# Altium footprint library Actel Footprints.PcbLib: 111 footprints (part 4 of 10)
Each footprint in its own frame and in the unit in brackets; x right, y up, seen from the top. Pads: shape width x height; smd on the part's side, far side on the other; paste and mask are expansions set on the pad; w line width, h text height; cw(c..) or ccw(c..) is an arc to the next point about the centre after c.
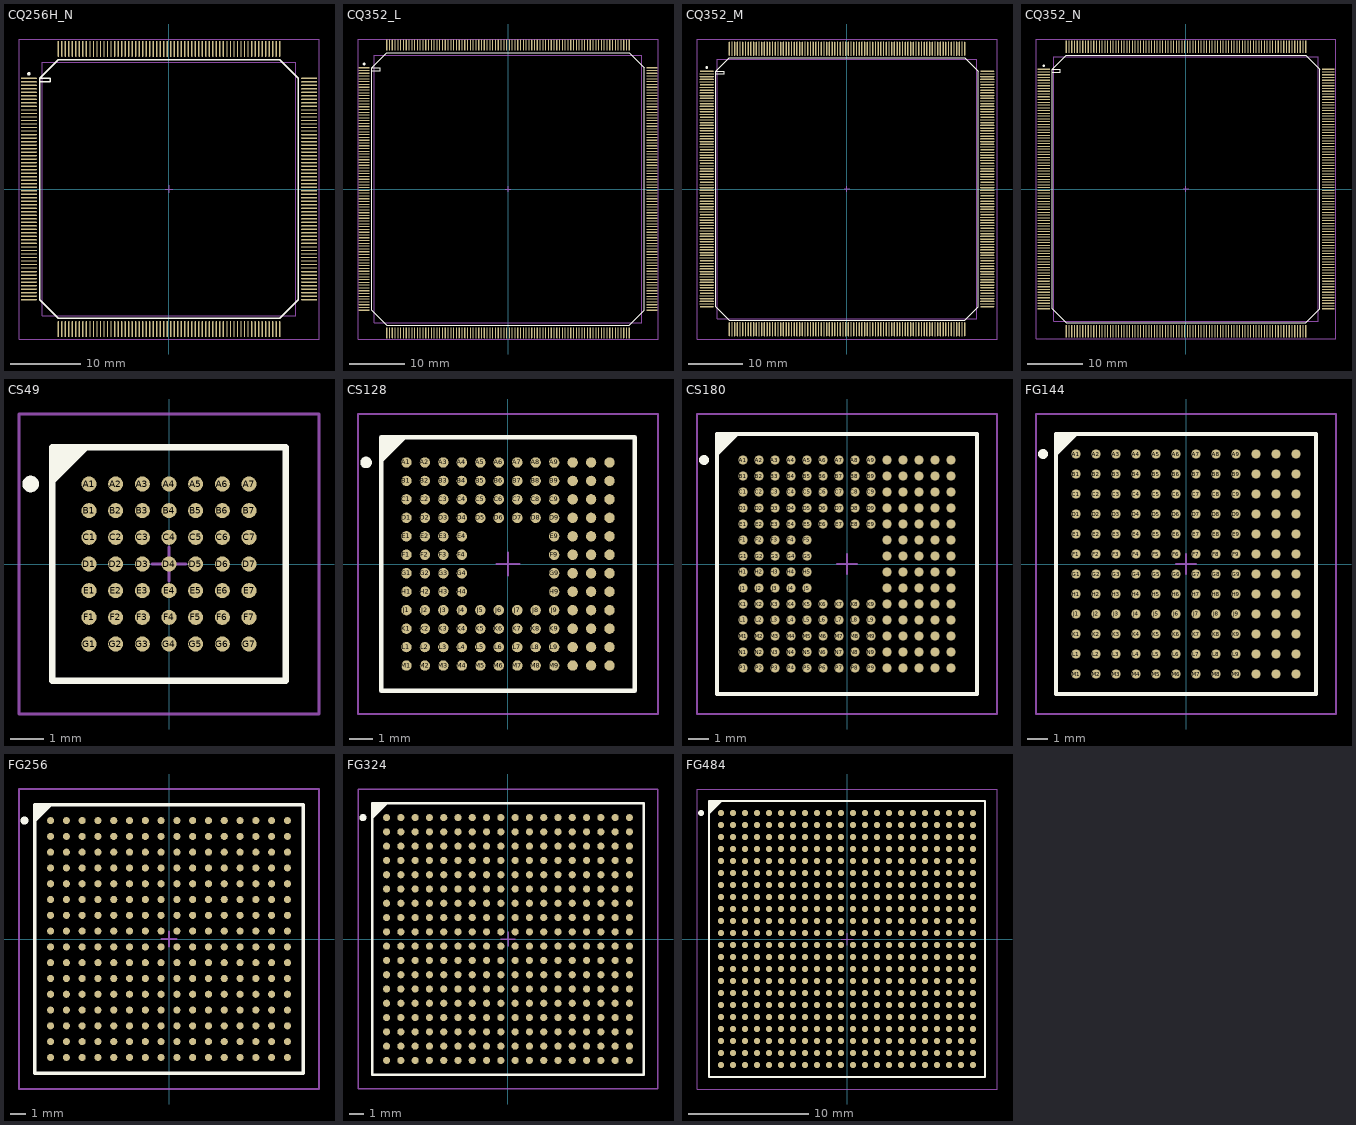
[diagram p3: the footprints below, top view; thin cyan lines are the x and y axes]

## CQ256H_N [mm] "256-Pin Ceramic Quad Flat Pack (CQFP) with Heat Sink, IPC Medium Density"
height 3.9
pads (256):
  oval 2.3x0.2 smd: 1(-19.95,15.75) 2(-19.95,15.25) 3(-19.95,14.75) 4(-19.95,14.25) 5(-19.95,13.75) 6(-19.95,13.25) 7(-19.95,12.75) 8(-19.95,12.25) 9(-19.95,11.75) 10(-19.95,11.25) 11(-19.95,10.75) 12(-19.95,10.25) 13(-19.95,9.75) 14(-19.95,9.25) 15(-19.95,8.75) 16(-19.95,8.25) 17(-19.95,7.75) 18(-19.95,7.25) 19(-19.95,6.75) 20(-19.95,6.25) 21(-19.95,5.75) 22(-19.95,5.25) 23(-19.95,4.75) 24(-19.95,4.25) 25(-19.95,3.75) 26(-19.95,3.25) 27(-19.95,2.75) 28(-19.95,2.25) 29(-19.95,1.75) 30(-19.95,1.25) 31(-19.95,0.75) 32(-19.95,0.25) 33(-19.95,-0.25) 34(-19.95,-0.75) 35(-19.95,-1.25) 36(-19.95,-1.75) 37(-19.95,-2.25) 38(-19.95,-2.75) 39(-19.95,-3.25) 40(-19.95,-3.75) 41(-19.95,-4.25) 42(-19.95,-4.75) 43(-19.95,-5.25) 44(-19.95,-5.75) 45(-19.95,-6.25) 46(-19.95,-6.75) 47(-19.95,-7.25) 48(-19.95,-7.75) 49(-19.95,-8.25) 50(-19.95,-8.75) 51(-19.95,-9.25) 52(-19.95,-9.75) 53(-19.95,-10.25) 54(-19.95,-10.75) 55(-19.95,-11.25) 56(-19.95,-11.75) 57(-19.95,-12.25) 58(-19.95,-12.75) 59(-19.95,-13.25) 60(-19.95,-13.75) 61(-19.95,-14.25) 62(-19.95,-14.75) 63(-19.95,-15.25) 64(-19.95,-15.75) 129(19.95,-15.75) 130(19.95,-15.25) 131(19.95,-14.75) 132(19.95,-14.25) 133(19.95,-13.75) 134(19.95,-13.25) 135(19.95,-12.75) 136(19.95,-12.25) 137(19.95,-11.75) 138(19.95,-11.25) 139(19.95,-10.75) 140(19.95,-10.25) 141(19.95,-9.75) 142(19.95,-9.25) 143(19.95,-8.75) 144(19.95,-8.25) 145(19.95,-7.75) 146(19.95,-7.25) 147(19.95,-6.75) 148(19.95,-6.25) 149(19.95,-5.75) 150(19.95,-5.25) 151(19.95,-4.75) 152(19.95,-4.25) 153(19.95,-3.75) 154(19.95,-3.25) 155(19.95,-2.75) 156(19.95,-2.25) 157(19.95,-1.75) 158(19.95,-1.25) 159(19.95,-0.75) 160(19.95,-0.25) 161(19.95,0.25) 162(19.95,0.75) 163(19.95,1.25) 164(19.95,1.75) 165(19.95,2.25) 166(19.95,2.75) 167(19.95,3.25) 168(19.95,3.75) 169(19.95,4.25) 170(19.95,4.75) 171(19.95,5.25) 172(19.95,5.75) 173(19.95,6.25) 174(19.95,6.75) 175(19.95,7.25) 176(19.95,7.75) 177(19.95,8.25) 178(19.95,8.75) 179(19.95,9.25) 180(19.95,9.75) 181(19.95,10.25) 182(19.95,10.75) 183(19.95,11.25) 184(19.95,11.75) 185(19.95,12.25) 186(19.95,12.75) 187(19.95,13.25) 188(19.95,13.75) 189(19.95,14.25) 190(19.95,14.75) 191(19.95,15.25) 192(19.95,15.75)
  oval 0.2x2.3 smd: 65(-15.75,-19.95) 66(-15.25,-19.95) 67(-14.75,-19.95) 68(-14.25,-19.95) 69(-13.75,-19.95) 70(-13.25,-19.95) 71(-12.75,-19.95) 72(-12.25,-19.95) 73(-11.75,-19.95) 74(-11.25,-19.95) 75(-10.75,-19.95) 76(-10.25,-19.95) 77(-9.75,-19.95) 78(-9.25,-19.95) 79(-8.75,-19.95) 80(-8.25,-19.95) 81(-7.75,-19.95) 82(-7.25,-19.95) 83(-6.75,-19.95) 84(-6.25,-19.95) 85(-5.75,-19.95) 86(-5.25,-19.95) 87(-4.75,-19.95) 88(-4.25,-19.95) 89(-3.75,-19.95) 90(-3.25,-19.95) 91(-2.75,-19.95) 92(-2.25,-19.95) 93(-1.75,-19.95) 94(-1.25,-19.95) 95(-0.75,-19.95) 96(-0.25,-19.95) 97(0.25,-19.95) 98(0.75,-19.95) 99(1.25,-19.95) 100(1.75,-19.95) 101(2.25,-19.95) 102(2.75,-19.95) 103(3.25,-19.95) 104(3.75,-19.95) 105(4.25,-19.95) 106(4.75,-19.95) 107(5.25,-19.95) 108(5.75,-19.95) 109(6.25,-19.95) 110(6.75,-19.95) 111(7.25,-19.95) 112(7.75,-19.95) 113(8.25,-19.95) 114(8.75,-19.95) 115(9.25,-19.95) 116(9.75,-19.95) 117(10.25,-19.95) 118(10.75,-19.95) 119(11.25,-19.95) 120(11.75,-19.95) 121(12.25,-19.95) 122(12.75,-19.95) 123(13.25,-19.95) 124(13.75,-19.95) 125(14.25,-19.95) 126(14.75,-19.95) 127(15.25,-19.95) 128(15.75,-19.95) 193(15.75,19.95) 194(15.25,19.95) 195(14.75,19.95) 196(14.25,19.95) 197(13.75,19.95) 198(13.25,19.95) 199(12.75,19.95) 200(12.25,19.95) 201(11.75,19.95) 202(11.25,19.95) 203(10.75,19.95) 204(10.25,19.95) 205(9.75,19.95) 206(9.25,19.95) 207(8.75,19.95) 208(8.25,19.95) 209(7.75,19.95) 210(7.25,19.95) 211(6.75,19.95) 212(6.25,19.95) 213(5.75,19.95) 214(5.25,19.95) 215(4.75,19.95) 216(4.25,19.95) 217(3.75,19.95) 218(3.25,19.95) 219(2.75,19.95) 220(2.25,19.95) 221(1.75,19.95) 222(1.25,19.95) 223(0.75,19.95) 224(0.25,19.95) 225(-0.25,19.95) 226(-0.75,19.95) 227(-1.25,19.95) 228(-1.75,19.95) 229(-2.25,19.95) 230(-2.75,19.95) 231(-3.25,19.95) 232(-3.75,19.95) 233(-4.25,19.95) 234(-4.75,19.95) 235(-5.25,19.95) 236(-5.75,19.95) 237(-6.25,19.95) 238(-6.75,19.95) 239(-7.25,19.95) 240(-7.75,19.95) 241(-8.25,19.95) 242(-8.75,19.95) 243(-9.25,19.95) 244(-9.75,19.95) 245(-10.25,19.95) 246(-10.75,19.95) 247(-11.25,19.95) 248(-11.75,19.95) 249(-12.25,19.95) 250(-12.75,19.95) 251(-13.25,19.95) 252(-13.75,19.95) 253(-14.25,19.95) 254(-14.75,19.95) 255(-15.25,19.95) 256(-15.75,19.95)
Top Overlay:
  circle w0.25: c-19.95,16.4 r0.125
  lines w0.2: -18.4,15.25 -16.9,15.25 -16.9,15.75 -18.4,15.75 ; -18.4,15.75 -15.75,18.4 15.75,18.4 18.4,15.75 18.4,-15.75 15.75,-18.4 -15.75,-18.4 -18.4,-15.75 -18.4,15.75
Mechanical 13:
  lines w0.1: -18.07,-18.07 18.07,-18.07 18.07,18.07 -18.07,18.07 -18.07,-18.07
Mechanical 15:
  lines w0.1: -0.5,0 0.5,0 ; 0,-0.5 0,0.5 ; -21.35,-21.35 21.35,-21.35 21.35,21.35 -21.35,21.35 -21.35,-21.35
3D body: height 3.9, standoff 0, extent -18.07,-18.07 18.07,18.07

## CQ352_L [mm] "352-Pin Ceramic Quad Flat Pack (CQFP), Cavity Up without Heat Sink, IPC High Density"
height 2.9
pads (352):
  oval 2x0.2 smd: 1(-25.8,21.75) 2(-25.8,21.25) 3(-25.8,20.75) 4(-25.8,20.25) 5(-25.8,19.75) 6(-25.8,19.25) 7(-25.8,18.75) 8(-25.8,18.25) 9(-25.8,17.75) 10(-25.8,17.25) 11(-25.8,16.75) 12(-25.8,16.25) 13(-25.8,15.75) 14(-25.8,15.25) 15(-25.8,14.75) 16(-25.8,14.25) 17(-25.8,13.75) 18(-25.8,13.25) 19(-25.8,12.75) 20(-25.8,12.25) 21(-25.8,11.75) 22(-25.8,11.25) 23(-25.8,10.75) 24(-25.8,10.25) 25(-25.8,9.75) 26(-25.8,9.25) 27(-25.8,8.75) 28(-25.8,8.25) 29(-25.8,7.75) 30(-25.8,7.25) 31(-25.8,6.75) 32(-25.8,6.25) 33(-25.8,5.75) 34(-25.8,5.25) 35(-25.8,4.75) 36(-25.8,4.25) 37(-25.8,3.75) 38(-25.8,3.25) 39(-25.8,2.75) 40(-25.8,2.25) 41(-25.8,1.75) 42(-25.8,1.25) 43(-25.8,0.75) 44(-25.8,0.25) 45(-25.8,-0.25) 46(-25.8,-0.75) 47(-25.8,-1.25) 48(-25.8,-1.75) 49(-25.8,-2.25) 50(-25.8,-2.75) 51(-25.8,-3.25) 52(-25.8,-3.75) 53(-25.8,-4.25) 54(-25.8,-4.75) 55(-25.8,-5.25) 56(-25.8,-5.75) 57(-25.8,-6.25) 58(-25.8,-6.75) 59(-25.8,-7.25) 60(-25.8,-7.75) 61(-25.8,-8.25) 62(-25.8,-8.75) 63(-25.8,-9.25) 64(-25.8,-9.75) 65(-25.8,-10.25) 66(-25.8,-10.75) 67(-25.8,-11.25) 68(-25.8,-11.75) 69(-25.8,-12.25) 70(-25.8,-12.75) 71(-25.8,-13.25) 72(-25.8,-13.75) 73(-25.8,-14.25) 74(-25.8,-14.75) 75(-25.8,-15.25) 76(-25.8,-15.75) 77(-25.8,-16.25) 78(-25.8,-16.75) 79(-25.8,-17.25) 80(-25.8,-17.75) 81(-25.8,-18.25) 82(-25.8,-18.75) 83(-25.8,-19.25) 84(-25.8,-19.75) 85(-25.8,-20.25) 86(-25.8,-20.75) 87(-25.8,-21.25) 88(-25.8,-21.75) 177(25.8,-21.75) 178(25.8,-21.25) 179(25.8,-20.75) 180(25.8,-20.25) 181(25.8,-19.75) 182(25.8,-19.25) 183(25.8,-18.75) 184(25.8,-18.25) 185(25.8,-17.75) 186(25.8,-17.25) 187(25.8,-16.75) 188(25.8,-16.25) 189(25.8,-15.75) 190(25.8,-15.25) 191(25.8,-14.75) 192(25.8,-14.25) 193(25.8,-13.75) 194(25.8,-13.25) 195(25.8,-12.75) 196(25.8,-12.25) 197(25.8,-11.75) 198(25.8,-11.25) 199(25.8,-10.75) 200(25.8,-10.25) 201(25.8,-9.75) 202(25.8,-9.25) 203(25.8,-8.75) 204(25.8,-8.25) 205(25.8,-7.75) 206(25.8,-7.25) 207(25.8,-6.75) 208(25.8,-6.25) 209(25.8,-5.75) 210(25.8,-5.25) 211(25.8,-4.75) 212(25.8,-4.25) 213(25.8,-3.75) 214(25.8,-3.25) 215(25.8,-2.75) 216(25.8,-2.25) 217(25.8,-1.75) 218(25.8,-1.25) 219(25.8,-0.75) 220(25.8,-0.25) 221(25.8,0.25) 222(25.8,0.75) 223(25.8,1.25) 224(25.8,1.75) 225(25.8,2.25) 226(25.8,2.75) 227(25.8,3.25) 228(25.8,3.75) 229(25.8,4.25) 230(25.8,4.75) 231(25.8,5.25) 232(25.8,5.75) 233(25.8,6.25) 234(25.8,6.75) 235(25.8,7.25) 236(25.8,7.75) 237(25.8,8.25) 238(25.8,8.75) 239(25.8,9.25) 240(25.8,9.75) 241(25.8,10.25) 242(25.8,10.75) 243(25.8,11.25) 244(25.8,11.75) 245(25.8,12.25) 246(25.8,12.75) 247(25.8,13.25) 248(25.8,13.75) 249(25.8,14.25) 250(25.8,14.75) 251(25.8,15.25) 252(25.8,15.75) 253(25.8,16.25) 254(25.8,16.75) 255(25.8,17.25) 256(25.8,17.75) 257(25.8,18.25) 258(25.8,18.75) 259(25.8,19.25) 260(25.8,19.75) 261(25.8,20.25) 262(25.8,20.75) 263(25.8,21.25) 264(25.8,21.75)
  oval 0.2x2 smd: 89(-21.75,-25.8) 90(-21.25,-25.8) 91(-20.75,-25.8) 92(-20.25,-25.8) 93(-19.75,-25.8) 94(-19.25,-25.8) 95(-18.75,-25.8) 96(-18.25,-25.8) 97(-17.75,-25.8) 98(-17.25,-25.8) 99(-16.75,-25.8) 100(-16.25,-25.8) 101(-15.75,-25.8) 102(-15.25,-25.8) 103(-14.75,-25.8) 104(-14.25,-25.8) 105(-13.75,-25.8) 106(-13.25,-25.8) 107(-12.75,-25.8) 108(-12.25,-25.8) 109(-11.75,-25.8) 110(-11.25,-25.8) 111(-10.75,-25.8) 112(-10.25,-25.8) 113(-9.75,-25.8) 114(-9.25,-25.8) 115(-8.75,-25.8) 116(-8.25,-25.8) 117(-7.75,-25.8) 118(-7.25,-25.8) 119(-6.75,-25.8) 120(-6.25,-25.8) 121(-5.75,-25.8) 122(-5.25,-25.8) 123(-4.75,-25.8) 124(-4.25,-25.8) 125(-3.75,-25.8) 126(-3.25,-25.8) 127(-2.75,-25.8) 128(-2.25,-25.8) 129(-1.75,-25.8) 130(-1.25,-25.8) 131(-0.75,-25.8) 132(-0.25,-25.8) 133(0.25,-25.8) 134(0.75,-25.8) 135(1.25,-25.8) 136(1.75,-25.8) 137(2.25,-25.8) 138(2.75,-25.8) 139(3.25,-25.8) 140(3.75,-25.8) 141(4.25,-25.8) 142(4.75,-25.8) 143(5.25,-25.8) 144(5.75,-25.8) 145(6.25,-25.8) 146(6.75,-25.8) 147(7.25,-25.8) 148(7.75,-25.8) 149(8.25,-25.8) 150(8.75,-25.8) 151(9.25,-25.8) 152(9.75,-25.8) 153(10.25,-25.8) 154(10.75,-25.8) 155(11.25,-25.8) 156(11.75,-25.8) 157(12.25,-25.8) 158(12.75,-25.8) 159(13.25,-25.8) 160(13.75,-25.8) 161(14.25,-25.8) 162(14.75,-25.8) 163(15.25,-25.8) 164(15.75,-25.8) 165(16.25,-25.8) 166(16.75,-25.8) 167(17.25,-25.8) 168(17.75,-25.8) 169(18.25,-25.8) 170(18.75,-25.8) 171(19.25,-25.8) 172(19.75,-25.8) 173(20.25,-25.8) 174(20.75,-25.8) 175(21.25,-25.8) 176(21.75,-25.8) 265(21.75,25.8) 266(21.25,25.8) 267(20.75,25.8) 268(20.25,25.8) 269(19.75,25.8) 270(19.25,25.8) 271(18.75,25.8) 272(18.25,25.8) 273(17.75,25.8) 274(17.25,25.8) 275(16.75,25.8) 276(16.25,25.8) 277(15.75,25.8) 278(15.25,25.8) 279(14.75,25.8) 280(14.25,25.8) 281(13.75,25.8) 282(13.25,25.8) 283(12.75,25.8) 284(12.25,25.8) 285(11.75,25.8) 286(11.25,25.8) 287(10.75,25.8) 288(10.25,25.8) 289(9.75,25.8) 290(9.25,25.8) 291(8.75,25.8) 292(8.25,25.8) 293(7.75,25.8) 294(7.25,25.8) 295(6.75,25.8) 296(6.25,25.8) 297(5.75,25.8) 298(5.25,25.8) 299(4.75,25.8) 300(4.25,25.8) 301(3.75,25.8) 302(3.25,25.8) 303(2.75,25.8) 304(2.25,25.8) 305(1.75,25.8) 306(1.25,25.8) 307(0.75,25.8) 308(0.25,25.8) 309(-0.25,25.8) 310(-0.75,25.8) 311(-1.25,25.8) 312(-1.75,25.8) 313(-2.25,25.8) 314(-2.75,25.8) 315(-3.25,25.8) 316(-3.75,25.8) 317(-4.25,25.8) 318(-4.75,25.8) 319(-5.25,25.8) 320(-5.75,25.8) 321(-6.25,25.8) 322(-6.75,25.8) 323(-7.25,25.8) 324(-7.75,25.8) 325(-8.25,25.8) 326(-8.75,25.8) 327(-9.25,25.8) 328(-9.75,25.8) 329(-10.25,25.8) 330(-10.75,25.8) 331(-11.25,25.8) 332(-11.75,25.8) 333(-12.25,25.8) 334(-12.75,25.8) 335(-13.25,25.8) 336(-13.75,25.8) 337(-14.25,25.8) 338(-14.75,25.8) 339(-15.25,25.8) 340(-15.75,25.8) 341(-16.25,25.8) 342(-16.75,25.8) 343(-17.25,25.8) 344(-17.75,25.8) 345(-18.25,25.8) 346(-18.75,25.8) 347(-19.25,25.8) 348(-19.75,25.8) 349(-20.25,25.8) 350(-20.75,25.8) 351(-21.25,25.8) 352(-21.75,25.8)
Top Overlay:
  circle w0.25: c-25.8,22.4 r0.125
  lines w0.2: -24.4,21.25 -22.9,21.25 -22.9,21.75 -24.4,21.75 ; -24.4,21.75 -24.4,-21.75 -21.75,-24.4 21.75,-24.4 24.4,-21.75 24.4,21.75 21.75,24.4 -21.75,24.4 -24.4,21.75
Mechanical 13:
  lines w0.1: -24,-24 -24,24 24,24 24,-24 -24,-24
Mechanical 15:
  lines w0.1: -0.5,0 0.5,0 ; 0,-0.5 0,0.5 ; -26.9,-26.9 -26.9,26.9 26.9,26.9 26.9,-26.9 -26.9,-26.9
3D body: height 2.9, standoff 0, extent -24,-24 24,24

## CQ352_M [mm] "352-Pin Ceramic Quad Flat Pack (CQFP), Cavity Up without Heat Sink, IPC Low Density"
height 2.9
pads (352):
  oval 2.6x0.25 smd: 1(-25.9,21.75) 2(-25.9,21.25) 3(-25.9,20.75) 4(-25.9,20.25) 5(-25.9,19.75) 6(-25.9,19.25) 7(-25.9,18.75) 8(-25.9,18.25) 9(-25.9,17.75) 10(-25.9,17.25) 11(-25.9,16.75) 12(-25.9,16.25) 13(-25.9,15.75) 14(-25.9,15.25) 15(-25.9,14.75) 16(-25.9,14.25) 17(-25.9,13.75) 18(-25.9,13.25) 19(-25.9,12.75) 20(-25.9,12.25) 21(-25.9,11.75) 22(-25.9,11.25) 23(-25.9,10.75) 24(-25.9,10.25) 25(-25.9,9.75) 26(-25.9,9.25) 27(-25.9,8.75) 28(-25.9,8.25) 29(-25.9,7.75) 30(-25.9,7.25) 31(-25.9,6.75) 32(-25.9,6.25) 33(-25.9,5.75) 34(-25.9,5.25) 35(-25.9,4.75) 36(-25.9,4.25) 37(-25.9,3.75) 38(-25.9,3.25) 39(-25.9,2.75) 40(-25.9,2.25) 41(-25.9,1.75) 42(-25.9,1.25) 43(-25.9,0.75) 44(-25.9,0.25) 45(-25.9,-0.25) 46(-25.9,-0.75) 47(-25.9,-1.25) 48(-25.9,-1.75) 49(-25.9,-2.25) 50(-25.9,-2.75) 51(-25.9,-3.25) 52(-25.9,-3.75) 53(-25.9,-4.25) 54(-25.9,-4.75) 55(-25.9,-5.25) 56(-25.9,-5.75) 57(-25.9,-6.25) 58(-25.9,-6.75) 59(-25.9,-7.25) 60(-25.9,-7.75) 61(-25.9,-8.25) 62(-25.9,-8.75) 63(-25.9,-9.25) 64(-25.9,-9.75) 65(-25.9,-10.25) 66(-25.9,-10.75) 67(-25.9,-11.25) 68(-25.9,-11.75) 69(-25.9,-12.25) 70(-25.9,-12.75) 71(-25.9,-13.25) 72(-25.9,-13.75) 73(-25.9,-14.25) 74(-25.9,-14.75) 75(-25.9,-15.25) 76(-25.9,-15.75) 77(-25.9,-16.25) 78(-25.9,-16.75) 79(-25.9,-17.25) 80(-25.9,-17.75) 81(-25.9,-18.25) 82(-25.9,-18.75) 83(-25.9,-19.25) 84(-25.9,-19.75) 85(-25.9,-20.25) 86(-25.9,-20.75) 87(-25.9,-21.25) 88(-25.9,-21.75) 177(25.9,-21.75) 178(25.9,-21.25) 179(25.9,-20.75) 180(25.9,-20.25) 181(25.9,-19.75) 182(25.9,-19.25) 183(25.9,-18.75) 184(25.9,-18.25) 185(25.9,-17.75) 186(25.9,-17.25) 187(25.9,-16.75) 188(25.9,-16.25) 189(25.9,-15.75) 190(25.9,-15.25) 191(25.9,-14.75) 192(25.9,-14.25) 193(25.9,-13.75) 194(25.9,-13.25) 195(25.9,-12.75) 196(25.9,-12.25) 197(25.9,-11.75) 198(25.9,-11.25) 199(25.9,-10.75) 200(25.9,-10.25) 201(25.9,-9.75) 202(25.9,-9.25) 203(25.9,-8.75) 204(25.9,-8.25) 205(25.9,-7.75) 206(25.9,-7.25) 207(25.9,-6.75) 208(25.9,-6.25) 209(25.9,-5.75) 210(25.9,-5.25) 211(25.9,-4.75) 212(25.9,-4.25) 213(25.9,-3.75) 214(25.9,-3.25) 215(25.9,-2.75) 216(25.9,-2.25) 217(25.9,-1.75) 218(25.9,-1.25) 219(25.9,-0.75) 220(25.9,-0.25) 221(25.9,0.25) 222(25.9,0.75) 223(25.9,1.25) 224(25.9,1.75) 225(25.9,2.25) 226(25.9,2.75) 227(25.9,3.25) 228(25.9,3.75) 229(25.9,4.25) 230(25.9,4.75) 231(25.9,5.25) 232(25.9,5.75) 233(25.9,6.25) 234(25.9,6.75) 235(25.9,7.25) 236(25.9,7.75) 237(25.9,8.25) 238(25.9,8.75) 239(25.9,9.25) 240(25.9,9.75) 241(25.9,10.25) 242(25.9,10.75) 243(25.9,11.25) 244(25.9,11.75) 245(25.9,12.25) 246(25.9,12.75) 247(25.9,13.25) 248(25.9,13.75) 249(25.9,14.25) 250(25.9,14.75) 251(25.9,15.25) 252(25.9,15.75) 253(25.9,16.25) 254(25.9,16.75) 255(25.9,17.25) 256(25.9,17.75) 257(25.9,18.25) 258(25.9,18.75) 259(25.9,19.25) 260(25.9,19.75) 261(25.9,20.25) 262(25.9,20.75) 263(25.9,21.25) 264(25.9,21.75)
  oval 0.25x2.6 smd: 89(-21.75,-25.9) 90(-21.25,-25.9) 91(-20.75,-25.9) 92(-20.25,-25.9) 93(-19.75,-25.9) 94(-19.25,-25.9) 95(-18.75,-25.9) 96(-18.25,-25.9) 97(-17.75,-25.9) 98(-17.25,-25.9) 99(-16.75,-25.9) 100(-16.25,-25.9) 101(-15.75,-25.9) 102(-15.25,-25.9) 103(-14.75,-25.9) 104(-14.25,-25.9) 105(-13.75,-25.9) 106(-13.25,-25.9) 107(-12.75,-25.9) 108(-12.25,-25.9) 109(-11.75,-25.9) 110(-11.25,-25.9) 111(-10.75,-25.9) 112(-10.25,-25.9) 113(-9.75,-25.9) 114(-9.25,-25.9) 115(-8.75,-25.9) 116(-8.25,-25.9) 117(-7.75,-25.9) 118(-7.25,-25.9) 119(-6.75,-25.9) 120(-6.25,-25.9) 121(-5.75,-25.9) 122(-5.25,-25.9) 123(-4.75,-25.9) 124(-4.25,-25.9) 125(-3.75,-25.9) 126(-3.25,-25.9) 127(-2.75,-25.9) 128(-2.25,-25.9) 129(-1.75,-25.9) 130(-1.25,-25.9) 131(-0.75,-25.9) 132(-0.25,-25.9) 133(0.25,-25.9) 134(0.75,-25.9) 135(1.25,-25.9) 136(1.75,-25.9) 137(2.25,-25.9) 138(2.75,-25.9) 139(3.25,-25.9) 140(3.75,-25.9) 141(4.25,-25.9) 142(4.75,-25.9) 143(5.25,-25.9) 144(5.75,-25.9) 145(6.25,-25.9) 146(6.75,-25.9) 147(7.25,-25.9) 148(7.75,-25.9) 149(8.25,-25.9) 150(8.75,-25.9) 151(9.25,-25.9) 152(9.75,-25.9) 153(10.25,-25.9) 154(10.75,-25.9) 155(11.25,-25.9) 156(11.75,-25.9) 157(12.25,-25.9) 158(12.75,-25.9) 159(13.25,-25.9) 160(13.75,-25.9) 161(14.25,-25.9) 162(14.75,-25.9) 163(15.25,-25.9) 164(15.75,-25.9) 165(16.25,-25.9) 166(16.75,-25.9) 167(17.25,-25.9) 168(17.75,-25.9) 169(18.25,-25.9) 170(18.75,-25.9) 171(19.25,-25.9) 172(19.75,-25.9) 173(20.25,-25.9) 174(20.75,-25.9) 175(21.25,-25.9) 176(21.75,-25.9) 265(21.75,25.9) 266(21.25,25.9) 267(20.75,25.9) 268(20.25,25.9) 269(19.75,25.9) 270(19.25,25.9) 271(18.75,25.9) 272(18.25,25.9) 273(17.75,25.9) 274(17.25,25.9) 275(16.75,25.9) 276(16.25,25.9) 277(15.75,25.9) 278(15.25,25.9) 279(14.75,25.9) 280(14.25,25.9) 281(13.75,25.9) 282(13.25,25.9) 283(12.75,25.9) 284(12.25,25.9) 285(11.75,25.9) 286(11.25,25.9) 287(10.75,25.9) 288(10.25,25.9) 289(9.75,25.9) 290(9.25,25.9) 291(8.75,25.9) 292(8.25,25.9) 293(7.75,25.9) 294(7.25,25.9) 295(6.75,25.9) 296(6.25,25.9) 297(5.75,25.9) 298(5.25,25.9) 299(4.75,25.9) 300(4.25,25.9) 301(3.75,25.9) 302(3.25,25.9) 303(2.75,25.9) 304(2.25,25.9) 305(1.75,25.9) 306(1.25,25.9) 307(0.75,25.9) 308(0.25,25.9) 309(-0.25,25.9) 310(-0.75,25.9) 311(-1.25,25.9) 312(-1.75,25.9) 313(-2.25,25.9) 314(-2.75,25.9) 315(-3.25,25.9) 316(-3.75,25.9) 317(-4.25,25.9) 318(-4.75,25.9) 319(-5.25,25.9) 320(-5.75,25.9) 321(-6.25,25.9) 322(-6.75,25.9) 323(-7.25,25.9) 324(-7.75,25.9) 325(-8.25,25.9) 326(-8.75,25.9) 327(-9.25,25.9) 328(-9.75,25.9) 329(-10.25,25.9) 330(-10.75,25.9) 331(-11.25,25.9) 332(-11.75,25.9) 333(-12.25,25.9) 334(-12.75,25.9) 335(-13.25,25.9) 336(-13.75,25.9) 337(-14.25,25.9) 338(-14.75,25.9) 339(-15.25,25.9) 340(-15.75,25.9) 341(-16.25,25.9) 342(-16.75,25.9) 343(-17.25,25.9) 344(-17.75,25.9) 345(-18.25,25.9) 346(-18.75,25.9) 347(-19.25,25.9) 348(-19.75,25.9) 349(-20.25,25.9) 350(-20.75,25.9) 351(-21.25,25.9) 352(-21.75,25.9)
Top Overlay:
  circle w0.25: c-25.9,22.425 r0.125
  lines w0.2: -24.2,21.25 -22.7,21.25 -22.7,21.75 -24.2,21.75 ; -24.2,21.75 -24.2,-21.75 -21.75,-24.2 21.75,-24.2 24.2,-21.75 24.2,21.75 21.75,24.2 -21.75,24.2 -24.2,21.75
Mechanical 13:
  lines w0.1: -24,-24 -24,24 24,24 24,-24 -24,-24
Mechanical 15:
  lines w0.1: -0.5,0 0.5,0 ; 0,-0.5 0,0.5 ; -27.7,-27.7 -27.7,27.7 27.7,27.7 27.7,-27.7 -27.7,-27.7
3D body: height 2.9, standoff 0, extent -24,-24 24,24

## CQ352_N [mm] "352-Pin Ceramic Quad Flat Pack (CQFP), Cavity Up without Heat Sink, IPC Medium Density"
height 2.9
pads (352):
  oval 2.3x0.2 smd: 1(-25.85,21.75) 2(-25.85,21.25) 3(-25.85,20.75) 4(-25.85,20.25) 5(-25.85,19.75) 6(-25.85,19.25) 7(-25.85,18.75) 8(-25.85,18.25) 9(-25.85,17.75) 10(-25.85,17.25) 11(-25.85,16.75) 12(-25.85,16.25) 13(-25.85,15.75) 14(-25.85,15.25) 15(-25.85,14.75) 16(-25.85,14.25) 17(-25.85,13.75) 18(-25.85,13.25) 19(-25.85,12.75) 20(-25.85,12.25) 21(-25.85,11.75) 22(-25.85,11.25) 23(-25.85,10.75) 24(-25.85,10.25) 25(-25.85,9.75) 26(-25.85,9.25) 27(-25.85,8.75) 28(-25.85,8.25) 29(-25.85,7.75) 30(-25.85,7.25) 31(-25.85,6.75) 32(-25.85,6.25) 33(-25.85,5.75) 34(-25.85,5.25) 35(-25.85,4.75) 36(-25.85,4.25) 37(-25.85,3.75) 38(-25.85,3.25) 39(-25.85,2.75) 40(-25.85,2.25) 41(-25.85,1.75) 42(-25.85,1.25) 43(-25.85,0.75) 44(-25.85,0.25) 45(-25.85,-0.25) 46(-25.85,-0.75) 47(-25.85,-1.25) 48(-25.85,-1.75) 49(-25.85,-2.25) 50(-25.85,-2.75) 51(-25.85,-3.25) 52(-25.85,-3.75) 53(-25.85,-4.25) 54(-25.85,-4.75) 55(-25.85,-5.25) 56(-25.85,-5.75) 57(-25.85,-6.25) 58(-25.85,-6.75) 59(-25.85,-7.25) 60(-25.85,-7.75) 61(-25.85,-8.25) 62(-25.85,-8.75) 63(-25.85,-9.25) 64(-25.85,-9.75) 65(-25.85,-10.25) 66(-25.85,-10.75) 67(-25.85,-11.25) 68(-25.85,-11.75) 69(-25.85,-12.25) 70(-25.85,-12.75) 71(-25.85,-13.25) 72(-25.85,-13.75) 73(-25.85,-14.25) 74(-25.85,-14.75) 75(-25.85,-15.25) 76(-25.85,-15.75) 77(-25.85,-16.25) 78(-25.85,-16.75) 79(-25.85,-17.25) 80(-25.85,-17.75) 81(-25.85,-18.25) 82(-25.85,-18.75) 83(-25.85,-19.25) 84(-25.85,-19.75) 85(-25.85,-20.25) 86(-25.85,-20.75) 87(-25.85,-21.25) 88(-25.85,-21.75) 177(25.85,-21.75) 178(25.85,-21.25) 179(25.85,-20.75) 180(25.85,-20.25) 181(25.85,-19.75) 182(25.85,-19.25) 183(25.85,-18.75) 184(25.85,-18.25) 185(25.85,-17.75) 186(25.85,-17.25) 187(25.85,-16.75) 188(25.85,-16.25) 189(25.85,-15.75) 190(25.85,-15.25) 191(25.85,-14.75) 192(25.85,-14.25) 193(25.85,-13.75) 194(25.85,-13.25) 195(25.85,-12.75) 196(25.85,-12.25) 197(25.85,-11.75) 198(25.85,-11.25) 199(25.85,-10.75) 200(25.85,-10.25) 201(25.85,-9.75) 202(25.85,-9.25) 203(25.85,-8.75) 204(25.85,-8.25) 205(25.85,-7.75) 206(25.85,-7.25) 207(25.85,-6.75) 208(25.85,-6.25) 209(25.85,-5.75) 210(25.85,-5.25) 211(25.85,-4.75) 212(25.85,-4.25) 213(25.85,-3.75) 214(25.85,-3.25) 215(25.85,-2.75) 216(25.85,-2.25) 217(25.85,-1.75) 218(25.85,-1.25) 219(25.85,-0.75) 220(25.85,-0.25) 221(25.85,0.25) 222(25.85,0.75) 223(25.85,1.25) 224(25.85,1.75) 225(25.85,2.25) 226(25.85,2.75) 227(25.85,3.25) 228(25.85,3.75) 229(25.85,4.25) 230(25.85,4.75) 231(25.85,5.25) 232(25.85,5.75) 233(25.85,6.25) 234(25.85,6.75) 235(25.85,7.25) 236(25.85,7.75) 237(25.85,8.25) 238(25.85,8.75) 239(25.85,9.25) 240(25.85,9.75) 241(25.85,10.25) 242(25.85,10.75) 243(25.85,11.25) 244(25.85,11.75) 245(25.85,12.25) 246(25.85,12.75) 247(25.85,13.25) 248(25.85,13.75) 249(25.85,14.25) 250(25.85,14.75) 251(25.85,15.25) 252(25.85,15.75) 253(25.85,16.25) 254(25.85,16.75) 255(25.85,17.25) 256(25.85,17.75) 257(25.85,18.25) 258(25.85,18.75) 259(25.85,19.25) 260(25.85,19.75) 261(25.85,20.25) 262(25.85,20.75) 263(25.85,21.25) 264(25.85,21.75)
  oval 0.2x2.3 smd: 89(-21.75,-25.85) 90(-21.25,-25.85) 91(-20.75,-25.85) 92(-20.25,-25.85) 93(-19.75,-25.85) 94(-19.25,-25.85) 95(-18.75,-25.85) 96(-18.25,-25.85) 97(-17.75,-25.85) 98(-17.25,-25.85) 99(-16.75,-25.85) 100(-16.25,-25.85) 101(-15.75,-25.85) 102(-15.25,-25.85) 103(-14.75,-25.85) 104(-14.25,-25.85) 105(-13.75,-25.85) 106(-13.25,-25.85) 107(-12.75,-25.85) 108(-12.25,-25.85) 109(-11.75,-25.85) 110(-11.25,-25.85) 111(-10.75,-25.85) 112(-10.25,-25.85) 113(-9.75,-25.85) 114(-9.25,-25.85) 115(-8.75,-25.85) 116(-8.25,-25.85) 117(-7.75,-25.85) 118(-7.25,-25.85) 119(-6.75,-25.85) 120(-6.25,-25.85) 121(-5.75,-25.85) 122(-5.25,-25.85) 123(-4.75,-25.85) 124(-4.25,-25.85) 125(-3.75,-25.85) 126(-3.25,-25.85) 127(-2.75,-25.85) 128(-2.25,-25.85) 129(-1.75,-25.85) 130(-1.25,-25.85) 131(-0.75,-25.85) 132(-0.25,-25.85) 133(0.25,-25.85) 134(0.75,-25.85) 135(1.25,-25.85) 136(1.75,-25.85) 137(2.25,-25.85) 138(2.75,-25.85) 139(3.25,-25.85) 140(3.75,-25.85) 141(4.25,-25.85) 142(4.75,-25.85) 143(5.25,-25.85) 144(5.75,-25.85) 145(6.25,-25.85) 146(6.75,-25.85) 147(7.25,-25.85) 148(7.75,-25.85) 149(8.25,-25.85) 150(8.75,-25.85) 151(9.25,-25.85) 152(9.75,-25.85) 153(10.25,-25.85) 154(10.75,-25.85) 155(11.25,-25.85) 156(11.75,-25.85) 157(12.25,-25.85) 158(12.75,-25.85) 159(13.25,-25.85) 160(13.75,-25.85) 161(14.25,-25.85) 162(14.75,-25.85) 163(15.25,-25.85) 164(15.75,-25.85) 165(16.25,-25.85) 166(16.75,-25.85) 167(17.25,-25.85) 168(17.75,-25.85) 169(18.25,-25.85) 170(18.75,-25.85) 171(19.25,-25.85) 172(19.75,-25.85) 173(20.25,-25.85) 174(20.75,-25.85) 175(21.25,-25.85) 176(21.75,-25.85) 265(21.75,25.85) 266(21.25,25.85) 267(20.75,25.85) 268(20.25,25.85) 269(19.75,25.85) 270(19.25,25.85) 271(18.75,25.85) 272(18.25,25.85) 273(17.75,25.85) 274(17.25,25.85) 275(16.75,25.85) 276(16.25,25.85) 277(15.75,25.85) 278(15.25,25.85) 279(14.75,25.85) 280(14.25,25.85) 281(13.75,25.85) 282(13.25,25.85) 283(12.75,25.85) 284(12.25,25.85) 285(11.75,25.85) 286(11.25,25.85) 287(10.75,25.85) 288(10.25,25.85) 289(9.75,25.85) 290(9.25,25.85) 291(8.75,25.85) 292(8.25,25.85) 293(7.75,25.85) 294(7.25,25.85) 295(6.75,25.85) 296(6.25,25.85) 297(5.75,25.85) 298(5.25,25.85) 299(4.75,25.85) 300(4.25,25.85) 301(3.75,25.85) 302(3.25,25.85) 303(2.75,25.85) 304(2.25,25.85) 305(1.75,25.85) 306(1.25,25.85) 307(0.75,25.85) 308(0.25,25.85) 309(-0.25,25.85) 310(-0.75,25.85) 311(-1.25,25.85) 312(-1.75,25.85) 313(-2.25,25.85) 314(-2.75,25.85) 315(-3.25,25.85) 316(-3.75,25.85) 317(-4.25,25.85) 318(-4.75,25.85) 319(-5.25,25.85) 320(-5.75,25.85) 321(-6.25,25.85) 322(-6.75,25.85) 323(-7.25,25.85) 324(-7.75,25.85) 325(-8.25,25.85) 326(-8.75,25.85) 327(-9.25,25.85) 328(-9.75,25.85) 329(-10.25,25.85) 330(-10.75,25.85) 331(-11.25,25.85) 332(-11.75,25.85) 333(-12.25,25.85) 334(-12.75,25.85) 335(-13.25,25.85) 336(-13.75,25.85) 337(-14.25,25.85) 338(-14.75,25.85) 339(-15.25,25.85) 340(-15.75,25.85) 341(-16.25,25.85) 342(-16.75,25.85) 343(-17.25,25.85) 344(-17.75,25.85) 345(-18.25,25.85) 346(-18.75,25.85) 347(-19.25,25.85) 348(-19.75,25.85) 349(-20.25,25.85) 350(-20.75,25.85) 351(-21.25,25.85) 352(-21.75,25.85)
Top Overlay:
  circle w0.25: c-25.85,22.4 r0.125
  lines w0.2: -24.3,21.25 -22.8,21.25 -22.8,21.75 -24.3,21.75 ; -24.3,21.75 -21.75,24.3 21.75,24.3 24.3,21.75 24.3,-21.75 21.75,-24.3 -21.75,-24.3 -24.3,-21.75 -24.3,21.75
Mechanical 13:
  lines w0.1: -24,-24 24,-24 24,24 -24,24 -24,-24
Mechanical 15:
  lines w0.1: -0.5,0 0.5,0 ; 0,-0.5 0,0.5 ; -27.25,-27.25 27.25,-27.25 27.25,27.25 -27.25,27.25 -27.25,-27.25
3D body: height 2.9, standoff 0, extent -24,-24 24,24

## CS49 [mm] "49-Ball Chip Scale Package (CS49)"
height 1.5
pads (49):
  round 0.45 smd: A1(-2.4,2.4) A2(-1.6,2.4) A3(-0.8,2.4) A4(0,2.4) A5(0.8,2.4) A6(1.6,2.4) A7(2.4,2.4) B1(-2.4,1.6) B2(-1.6,1.6) B3(-0.8,1.6) B4(0,1.6) B5(0.8,1.6) B6(1.6,1.6) B7(2.4,1.6) C1(-2.4,0.8) C2(-1.6,0.8) C3(-0.8,0.8) C4(0,0.8) C5(0.8,0.8) C6(1.6,0.8) C7(2.4,0.8) D1(-2.4,0) D2(-1.6,0) D3(-0.8,0) D4(0,0) D5(0.8,0) D6(1.6,0) D7(2.4,0) E1(-2.4,-0.8) E2(-1.6,-0.8) E3(-0.8,-0.8) E4(0,-0.8) E5(0.8,-0.8) E6(1.6,-0.8) E7(2.4,-0.8) F1(-2.4,-1.6) F2(-1.6,-1.6) F3(-0.8,-1.6) F4(0,-1.6) F5(0.8,-1.6) F6(1.6,-1.6) F7(2.4,-1.6) G1(-2.4,-2.4) G2(-1.6,-2.4) G3(-0.8,-2.4) G4(0,-2.4) G5(0.8,-2.4) G6(1.6,-2.4) G7(2.4,-2.4)
Top Overlay:
  circle w0.25: c-4.15,2.4 r0.125
  region: -2.5,3.5 -3.5,2.5 -3.5,3.5
  lines w0.2: -3.5,2.5 -2.5,3.5 ; -3.5,-3.5 -3.5,3.5 3.5,3.5 3.5,-3.5 -3.5,-3.5
Mechanical 13:
  lines w0.1: -3.5,-3.5 -3.5,3.5 3.5,3.5 3.5,-3.5 -3.5,-3.5
Mechanical 15:
  lines w0.1: -0.5,0 0.5,0 ; 0,-0.5 0,0.5 ; -4.5,-4.5 -4.5,4.5 4.5,4.5 4.5,-4.5 -4.5,-4.5
3D body: height 1.5, standoff 0, extent -3.5,-3.5 3.5,3.5

## CS128 [mm] "128-Ball Chip Scale Package (CS128)"
height 1.5
pads (128):
  round 0.45 smd: A1(-4.4,4.4) A2(-3.6,4.4) A3(-2.8,4.4) A4(-2,4.4) A5(-1.2,4.4) A6(-0.4,4.4) A7(0.4,4.4) A8(1.2,4.4) A9(2,4.4) A10(2.8,4.4) A11(3.6,4.4) A12(4.4,4.4) B1(-4.4,3.6) B2(-3.6,3.6) B3(-2.8,3.6) B4(-2,3.6) B5(-1.2,3.6) B6(-0.4,3.6) B7(0.4,3.6) B8(1.2,3.6) B9(2,3.6) B10(2.8,3.6) B11(3.6,3.6) B12(4.4,3.6) C1(-4.4,2.8) C2(-3.6,2.8) C3(-2.8,2.8) C4(-2,2.8) C5(-1.2,2.8) C6(-0.4,2.8) C7(0.4,2.8) C8(1.2,2.8) C9(2,2.8) C10(2.8,2.8) C11(3.6,2.8) C12(4.4,2.8) D1(-4.4,2) D2(-3.6,2) D3(-2.8,2) D4(-2,2) D5(-1.2,2) D6(-0.4,2) D7(0.4,2) D8(1.2,2) D9(2,2) D10(2.8,2) D11(3.6,2) D12(4.4,2) E1(-4.4,1.2) E2(-3.6,1.2) E3(-2.8,1.2) E4(-2,1.2) E9(2,1.2) E10(2.8,1.2) E11(3.6,1.2) E12(4.4,1.2) F1(-4.4,0.4) F2(-3.6,0.4) F3(-2.8,0.4) F4(-2,0.4) F9(2,0.4) F10(2.8,0.4) F11(3.6,0.4) F12(4.4,0.4) G1(-4.4,-0.4) G2(-3.6,-0.4) G3(-2.8,-0.4) G4(-2,-0.4) G9(2,-0.4) G10(2.8,-0.4) G11(3.6,-0.4) G12(4.4,-0.4) H1(-4.4,-1.2) H2(-3.6,-1.2) H3(-2.8,-1.2) H4(-2,-1.2) H9(2,-1.2) H10(2.8,-1.2) H11(3.6,-1.2) H12(4.4,-1.2) J1(-4.4,-2) J2(-3.6,-2) J3(-2.8,-2) J4(-2,-2) J5(-1.2,-2) J6(-0.4,-2) J7(0.4,-2) J8(1.2,-2) J9(2,-2) J10(2.8,-2) J11(3.6,-2) J12(4.4,-2) K1(-4.4,-2.8) K2(-3.6,-2.8) K3(-2.8,-2.8) K4(-2,-2.8) K5(-1.2,-2.8) K6(-0.4,-2.8) K7(0.4,-2.8) K8(1.2,-2.8) K9(2,-2.8) K10(2.8,-2.8) K11(3.6,-2.8) K12(4.4,-2.8) L1(-4.4,-3.6) L2(-3.6,-3.6) L3(-2.8,-3.6) L4(-2,-3.6) L5(-1.2,-3.6) L6(-0.4,-3.6) L7(0.4,-3.6) L8(1.2,-3.6) L9(2,-3.6) L10(2.8,-3.6) L11(3.6,-3.6) L12(4.4,-3.6) M1(-4.4,-4.4) M2(-3.6,-4.4) M3(-2.8,-4.4) M4(-2,-4.4) M5(-1.2,-4.4) M6(-0.4,-4.4) M7(0.4,-4.4) M8(1.2,-4.4) M9(2,-4.4) M10(2.8,-4.4) M11(3.6,-4.4) M12(4.4,-4.4)
Top Overlay:
  circle w0.25: c-6.15,4.4 r0.125
  region: -4.5,5.5 -5.5,4.5 -5.5,5.5
  lines w0.2: -5.5,4.5 -4.5,5.5 ; -5.5,-5.5 -5.5,5.5 5.5,5.5 5.5,-5.5 -5.5,-5.5
Mechanical 13:
  lines w0.1: -5.5,-5.5 -5.5,5.5 5.5,5.5 5.5,-5.5 -5.5,-5.5
Mechanical 15:
  lines w0.1: -0.5,0 0.5,0 ; 0,-0.5 0,0.5 ; -6.5,-6.5 -6.5,6.5 6.5,6.5 6.5,-6.5 -6.5,-6.5
3D body: height 1.5, standoff 0, extent -5.5,-5.5 5.5,5.5

## CS180 [mm] "180-Ball Chip Scale Package (CS180)"
height 1.5
pads (180):
  round 0.45 smd: A1(-5.2,5.2) A2(-4.4,5.2) A3(-3.6,5.2) A4(-2.8,5.2) A5(-2,5.2) A6(-1.2,5.2) A7(-0.4,5.2) A8(0.4,5.2) A9(1.2,5.2) A10(2,5.2) A11(2.8,5.2) A12(3.6,5.2) A13(4.4,5.2) A14(5.2,5.2) B1(-5.2,4.4) B2(-4.4,4.4) B3(-3.6,4.4) B4(-2.8,4.4) B5(-2,4.4) B6(-1.2,4.4) B7(-0.4,4.4) B8(0.4,4.4) B9(1.2,4.4) B10(2,4.4) B11(2.8,4.4) B12(3.6,4.4) B13(4.4,4.4) B14(5.2,4.4) C1(-5.2,3.6) C2(-4.4,3.6) C3(-3.6,3.6) C4(-2.8,3.6) C5(-2,3.6) C6(-1.2,3.6) C7(-0.4,3.6) C8(0.4,3.6) C9(1.2,3.6) C10(2,3.6) C11(2.8,3.6) C12(3.6,3.6) C13(4.4,3.6) C14(5.2,3.6) D1(-5.2,2.8) D2(-4.4,2.8) D3(-3.6,2.8) D4(-2.8,2.8) D5(-2,2.8) D6(-1.2,2.8) D7(-0.4,2.8) D8(0.4,2.8) D9(1.2,2.8) D10(2,2.8) D11(2.8,2.8) D12(3.6,2.8) D13(4.4,2.8) D14(5.2,2.8) E1(-5.2,2) E2(-4.4,2) E3(-3.6,2) E4(-2.8,2) E5(-2,2) E6(-1.2,2) E7(-0.4,2) E8(0.4,2) E9(1.2,2) E10(2,2) E11(2.8,2) E12(3.6,2) E13(4.4,2) E14(5.2,2) F1(-5.2,1.2) F2(-4.4,1.2) F3(-3.6,1.2) F4(-2.8,1.2) F5(-2,1.2) F10(2,1.2) F11(2.8,1.2) F12(3.6,1.2) F13(4.4,1.2) F14(5.2,1.2) G1(-5.2,0.4) G2(-4.4,0.4) G3(-3.6,0.4) G4(-2.8,0.4) G5(-2,0.4) G10(2,0.4) G11(2.8,0.4) G12(3.6,0.4) G13(4.4,0.4) G14(5.2,0.4) H1(-5.2,-0.4) H2(-4.4,-0.4) H3(-3.6,-0.4) H4(-2.8,-0.4) H5(-2,-0.4) H10(2,-0.4) H11(2.8,-0.4) H12(3.6,-0.4) H13(4.4,-0.4) H14(5.2,-0.4) J1(-5.2,-1.2) J2(-4.4,-1.2) J3(-3.6,-1.2) J4(-2.8,-1.2) J5(-2,-1.2) J10(2,-1.2) J11(2.8,-1.2) J12(3.6,-1.2) J13(4.4,-1.2) J14(5.2,-1.2) K1(-5.2,-2) K2(-4.4,-2) K3(-3.6,-2) K4(-2.8,-2) K5(-2,-2) K6(-1.2,-2) K7(-0.4,-2) K8(0.4,-2) K9(1.2,-2) K10(2,-2) K11(2.8,-2) K12(3.6,-2) K13(4.4,-2) K14(5.2,-2) L1(-5.2,-2.8) L2(-4.4,-2.8) L3(-3.6,-2.8) L4(-2.8,-2.8) L5(-2,-2.8) L6(-1.2,-2.8) L7(-0.4,-2.8) L8(0.4,-2.8) L9(1.2,-2.8) L10(2,-2.8) L11(2.8,-2.8) L12(3.6,-2.8) L13(4.4,-2.8) L14(5.2,-2.8) M1(-5.2,-3.6) M2(-4.4,-3.6) M3(-3.6,-3.6) M4(-2.8,-3.6) M5(-2,-3.6) M6(-1.2,-3.6) M7(-0.4,-3.6) M8(0.4,-3.6) M9(1.2,-3.6) M10(2,-3.6) M11(2.8,-3.6) M12(3.6,-3.6) M13(4.4,-3.6) M14(5.2,-3.6) N1(-5.2,-4.4) N2(-4.4,-4.4) N3(-3.6,-4.4) N4(-2.8,-4.4) N5(-2,-4.4) N6(-1.2,-4.4) N7(-0.4,-4.4) N8(0.4,-4.4) N9(1.2,-4.4) N10(2,-4.4) N11(2.8,-4.4) N12(3.6,-4.4) N13(4.4,-4.4) N14(5.2,-4.4) P1(-5.2,-5.2) P2(-4.4,-5.2) P3(-3.6,-5.2) P4(-2.8,-5.2) P5(-2,-5.2) P6(-1.2,-5.2) P7(-0.4,-5.2) P8(0.4,-5.2) P9(1.2,-5.2) P10(2,-5.2) P11(2.8,-5.2) P12(3.6,-5.2) P13(4.4,-5.2) P14(5.2,-5.2)
Top Overlay:
  circle w0.25: c-7.15,5.2 r0.125
  region: -5.5,6.5 -6.5,5.5 -6.5,6.5
  lines w0.2: -6.5,5.5 -5.5,6.5 ; -6.5,-6.5 6.5,-6.5 6.5,6.5 -6.5,6.5 -6.5,-6.5
Mechanical 13:
  lines w0.1: -6.5,-6.5 6.5,-6.5 6.5,6.5 -6.5,6.5 -6.5,-6.5
Mechanical 15:
  lines w0.1: -0.5,0 0.5,0 ; 0,-0.5 0,0.5 ; -7.5,-7.5 7.5,-7.5 7.5,7.5 -7.5,7.5 -7.5,-7.5
3D body: height 1.5, standoff 0, extent -6.5,-6.5 6.5,6.5

## FG144 [mm] "144-Ball Fine Pitch Plastic Ball Grid Array (FG144)"
height 1.55
pads (144):
  round 0.45 smd: A1(-5.5,5.5) A2(-4.5,5.5) A3(-3.5,5.5) A4(-2.5,5.5) A5(-1.5,5.5) A6(-0.5,5.5) A7(0.5,5.5) A8(1.5,5.5) A9(2.5,5.5) A10(3.5,5.5) A11(4.5,5.5) A12(5.5,5.5) B1(-5.5,4.5) B2(-4.5,4.5) B3(-3.5,4.5) B4(-2.5,4.5) B5(-1.5,4.5) B6(-0.5,4.5) B7(0.5,4.5) B8(1.5,4.5) B9(2.5,4.5) B10(3.5,4.5) B11(4.5,4.5) B12(5.5,4.5) C1(-5.5,3.5) C2(-4.5,3.5) C3(-3.5,3.5) C4(-2.5,3.5) C5(-1.5,3.5) C6(-0.5,3.5) C7(0.5,3.5) C8(1.5,3.5) C9(2.5,3.5) C10(3.5,3.5) C11(4.5,3.5) C12(5.5,3.5) D1(-5.5,2.5) D2(-4.5,2.5) D3(-3.5,2.5) D4(-2.5,2.5) D5(-1.5,2.5) D6(-0.5,2.5) D7(0.5,2.5) D8(1.5,2.5) D9(2.5,2.5) D10(3.5,2.5) D11(4.5,2.5) D12(5.5,2.5) E1(-5.5,1.5) E2(-4.5,1.5) E3(-3.5,1.5) E4(-2.5,1.5) E5(-1.5,1.5) E6(-0.5,1.5) E7(0.5,1.5) E8(1.5,1.5) E9(2.5,1.5) E10(3.5,1.5) E11(4.5,1.5) E12(5.5,1.5) F1(-5.5,0.5) F2(-4.5,0.5) F3(-3.5,0.5) F4(-2.5,0.5) F5(-1.5,0.5) F6(-0.5,0.5) F7(0.5,0.5) F8(1.5,0.5) F9(2.5,0.5) F10(3.5,0.5) F11(4.5,0.5) F12(5.5,0.5) G1(-5.5,-0.5) G2(-4.5,-0.5) G3(-3.5,-0.5) G4(-2.5,-0.5) G5(-1.5,-0.5) G6(-0.5,-0.5) G7(0.5,-0.5) G8(1.5,-0.5) G9(2.5,-0.5) G10(3.5,-0.5) G11(4.5,-0.5) G12(5.5,-0.5) H1(-5.5,-1.5) H2(-4.5,-1.5) H3(-3.5,-1.5) H4(-2.5,-1.5) H5(-1.5,-1.5) H6(-0.5,-1.5) H7(0.5,-1.5) H8(1.5,-1.5) H9(2.5,-1.5) H10(3.5,-1.5) H11(4.5,-1.5) H12(5.5,-1.5) J1(-5.5,-2.5) J2(-4.5,-2.5) J3(-3.5,-2.5) J4(-2.5,-2.5) J5(-1.5,-2.5) J6(-0.5,-2.5) J7(0.5,-2.5) J8(1.5,-2.5) J9(2.5,-2.5) J10(3.5,-2.5) J11(4.5,-2.5) J12(5.5,-2.5) K1(-5.5,-3.5) K2(-4.5,-3.5) K3(-3.5,-3.5) K4(-2.5,-3.5) K5(-1.5,-3.5) K6(-0.5,-3.5) K7(0.5,-3.5) K8(1.5,-3.5) K9(2.5,-3.5) K10(3.5,-3.5) K11(4.5,-3.5) K12(5.5,-3.5) L1(-5.5,-4.5) L2(-4.5,-4.5) L3(-3.5,-4.5) L4(-2.5,-4.5) L5(-1.5,-4.5) L6(-0.5,-4.5) L7(0.5,-4.5) L8(1.5,-4.5) L9(2.5,-4.5) L10(3.5,-4.5) L11(4.5,-4.5) L12(5.5,-4.5) M1(-5.5,-5.5) M2(-4.5,-5.5) M3(-3.5,-5.5) M4(-2.5,-5.5) M5(-1.5,-5.5) M6(-0.5,-5.5) M7(0.5,-5.5) M8(1.5,-5.5) M9(2.5,-5.5) M10(3.5,-5.5) M11(4.5,-5.5) M12(5.5,-5.5)
Top Overlay:
  circle w0.25: c-7.15,5.5 r0.125
  region: -5.5,6.5 -6.5,5.5 -6.5,6.5
  lines w0.2: -6.5,5.5 -5.5,6.5 ; -6.5,-6.5 6.5,-6.5 6.5,6.5 -6.5,6.5 -6.5,-6.5
Mechanical 13:
  lines w0.1: -6.5,-6.5 6.5,-6.5 6.5,6.5 -6.5,6.5 -6.5,-6.5
Mechanical 15:
  lines w0.1: -0.5,0 0.5,0 ; 0,-0.5 0,0.5 ; -7.5,-7.5 7.5,-7.5 7.5,7.5 -7.5,7.5 -7.5,-7.5
3D body: height 1.55, standoff 0, extent -6.5,-6.5 6.5,6.5

## FG256 [mm] "256-Ball Fine Pitch Plastic Ball Grid Array (FG256)"
height 1.97
pads (256):
  round 0.45 smd: A1(-7.5,7.5) A2(-6.5,7.5) A3(-5.5,7.5) A4(-4.5,7.5) A5(-3.5,7.5) A6(-2.5,7.5) A7(-1.5,7.5) A8(-0.5,7.5) A9(0.5,7.5) A10(1.5,7.5) A11(2.5,7.5) A12(3.5,7.5) A13(4.5,7.5) A14(5.5,7.5) A15(6.5,7.5) A16(7.5,7.5) B1(-7.5,6.5) B2(-6.5,6.5) B3(-5.5,6.5) B4(-4.5,6.5) B5(-3.5,6.5) B6(-2.5,6.5) B7(-1.5,6.5) B8(-0.5,6.5) B9(0.5,6.5) B10(1.5,6.5) B11(2.5,6.5) B12(3.5,6.5) B13(4.5,6.5) B14(5.5,6.5) B15(6.5,6.5) B16(7.5,6.5) C1(-7.5,5.5) C2(-6.5,5.5) C3(-5.5,5.5) C4(-4.5,5.5) C5(-3.5,5.5) C6(-2.5,5.5) C7(-1.5,5.5) C8(-0.5,5.5) C9(0.5,5.5) C10(1.5,5.5) C11(2.5,5.5) C12(3.5,5.5) C13(4.5,5.5) C14(5.5,5.5) C15(6.5,5.5) C16(7.5,5.5) D1(-7.5,4.5) D2(-6.5,4.5) D3(-5.5,4.5) D4(-4.5,4.5) D5(-3.5,4.5) D6(-2.5,4.5) D7(-1.5,4.5) D8(-0.5,4.5) D9(0.5,4.5) D10(1.5,4.5) D11(2.5,4.5) D12(3.5,4.5) D13(4.5,4.5) D14(5.5,4.5) D15(6.5,4.5) D16(7.5,4.5) E1(-7.5,3.5) E2(-6.5,3.5) E3(-5.5,3.5) E4(-4.5,3.5) E5(-3.5,3.5) E6(-2.5,3.5) E7(-1.5,3.5) E8(-0.5,3.5) E9(0.5,3.5) E10(1.5,3.5) E11(2.5,3.5) E12(3.5,3.5) E13(4.5,3.5) E14(5.5,3.5) E15(6.5,3.5) E16(7.5,3.5) F1(-7.5,2.5) F2(-6.5,2.5) F3(-5.5,2.5) F4(-4.5,2.5) F5(-3.5,2.5) F6(-2.5,2.5) F7(-1.5,2.5) F8(-0.5,2.5) F9(0.5,2.5) F10(1.5,2.5) F11(2.5,2.5) F12(3.5,2.5) F13(4.5,2.5) F14(5.5,2.5) F15(6.5,2.5) F16(7.5,2.5) G1(-7.5,1.5) G2(-6.5,1.5) G3(-5.5,1.5) G4(-4.5,1.5) G5(-3.5,1.5) G6(-2.5,1.5) G7(-1.5,1.5) G8(-0.5,1.5) G9(0.5,1.5) G10(1.5,1.5) G11(2.5,1.5) G12(3.5,1.5) G13(4.5,1.5) G14(5.5,1.5) G15(6.5,1.5) G16(7.5,1.5) H1(-7.5,0.5) H2(-6.5,0.5) H3(-5.5,0.5) H4(-4.5,0.5) H5(-3.5,0.5) H6(-2.5,0.5) H7(-1.5,0.5) H8(-0.5,0.5) H9(0.5,0.5) H10(1.5,0.5) H11(2.5,0.5) H12(3.5,0.5) H13(4.5,0.5) H14(5.5,0.5) H15(6.5,0.5) H16(7.5,0.5) J1(-7.5,-0.5) J2(-6.5,-0.5) J3(-5.5,-0.5) J4(-4.5,-0.5) J5(-3.5,-0.5) J6(-2.5,-0.5) J7(-1.5,-0.5) J8(-0.5,-0.5) J9(0.5,-0.5) J10(1.5,-0.5) J11(2.5,-0.5) J12(3.5,-0.5) J13(4.5,-0.5) J14(5.5,-0.5) J15(6.5,-0.5) J16(7.5,-0.5) K1(-7.5,-1.5) K2(-6.5,-1.5) K3(-5.5,-1.5) K4(-4.5,-1.5) K5(-3.5,-1.5) K6(-2.5,-1.5) K7(-1.5,-1.5) K8(-0.5,-1.5) K9(0.5,-1.5) K10(1.5,-1.5) K11(2.5,-1.5) K12(3.5,-1.5) K13(4.5,-1.5) K14(5.5,-1.5) K15(6.5,-1.5) K16(7.5,-1.5) L1(-7.5,-2.5) L2(-6.5,-2.5) L3(-5.5,-2.5) L4(-4.5,-2.5) L5(-3.5,-2.5) L6(-2.5,-2.5) L7(-1.5,-2.5) L8(-0.5,-2.5) L9(0.5,-2.5) L10(1.5,-2.5) L11(2.5,-2.5) L12(3.5,-2.5) L13(4.5,-2.5) L14(5.5,-2.5) L15(6.5,-2.5) L16(7.5,-2.5) M1(-7.5,-3.5) M2(-6.5,-3.5) M3(-5.5,-3.5) M4(-4.5,-3.5) M5(-3.5,-3.5) M6(-2.5,-3.5) M7(-1.5,-3.5) M8(-0.5,-3.5) M9(0.5,-3.5) M10(1.5,-3.5) M11(2.5,-3.5) M12(3.5,-3.5) M13(4.5,-3.5) M14(5.5,-3.5) M15(6.5,-3.5) M16(7.5,-3.5) N1(-7.5,-4.5) N2(-6.5,-4.5) N3(-5.5,-4.5) N4(-4.5,-4.5) N5(-3.5,-4.5) N6(-2.5,-4.5) N7(-1.5,-4.5) N8(-0.5,-4.5) N9(0.5,-4.5) N10(1.5,-4.5) N11(2.5,-4.5) N12(3.5,-4.5) N13(4.5,-4.5) N14(5.5,-4.5) N15(6.5,-4.5) N16(7.5,-4.5) P1(-7.5,-5.5) P2(-6.5,-5.5) P3(-5.5,-5.5) P4(-4.5,-5.5) P5(-3.5,-5.5) P6(-2.5,-5.5) P7(-1.5,-5.5) P8(-0.5,-5.5) P9(0.5,-5.5) P10(1.5,-5.5) P11(2.5,-5.5) P12(3.5,-5.5) P13(4.5,-5.5) P14(5.5,-5.5) P15(6.5,-5.5) P16(7.5,-5.5) R1(-7.5,-6.5) R2(-6.5,-6.5) R3(-5.5,-6.5) R4(-4.5,-6.5) R5(-3.5,-6.5) R6(-2.5,-6.5) R7(-1.5,-6.5) R8(-0.5,-6.5) R9(0.5,-6.5) R10(1.5,-6.5) R11(2.5,-6.5) R12(3.5,-6.5) R13(4.5,-6.5) R14(5.5,-6.5) R15(6.5,-6.5) R16(7.5,-6.5) T1(-7.5,-7.5) T2(-6.5,-7.5) T3(-5.5,-7.5) T4(-4.5,-7.5) T5(-3.5,-7.5) T6(-2.5,-7.5) T7(-1.5,-7.5) T8(-0.5,-7.5) T9(0.5,-7.5) T10(1.5,-7.5) T11(2.5,-7.5) T12(3.5,-7.5) T13(4.5,-7.5) T14(5.5,-7.5) T15(6.5,-7.5) T16(7.5,-7.5)
Top Overlay:
  circle w0.25: c-9.15,7.5 r0.125
  region: -7.5,8.5 -8.5,7.5 -8.5,8.5
  lines w0.2: -8.5,7.5 -7.5,8.5 ; -8.5,-8.5 -8.5,8.5 8.5,8.5 8.5,-8.5 -8.5,-8.5
Mechanical 13:
  lines w0.1: -8.5,-8.5 -8.5,8.5 8.5,8.5 8.5,-8.5 -8.5,-8.5
Mechanical 15:
  lines w0.1: -0.5,0 0.5,0 ; 0,-0.5 0,0.5 ; -9.5,-9.5 -9.5,9.5 9.5,9.5 9.5,-9.5 -9.5,-9.5
3D body: height 1.97, standoff 0, extent -8.5,-8.5 8.5,8.5

## FG324 [mm] "324-Ball Fine Pitch Plastic Ball Grid Array (FG324)"
height 1.78
pads (324):
  round 0.5 smd: A1(-8.5,8.5) A2(-7.5,8.5) A3(-6.5,8.5) A4(-5.5,8.5) A5(-4.5,8.5) A6(-3.5,8.5) A7(-2.5,8.5) A8(-1.5,8.5) A9(-0.5,8.5) A10(0.5,8.5) A11(1.5,8.5) A12(2.5,8.5) A13(3.5,8.5) A14(4.5,8.5) A15(5.5,8.5) A16(6.5,8.5) A17(7.5,8.5) A18(8.5,8.5) B1(-8.5,7.5) B2(-7.5,7.5) B3(-6.5,7.5) B4(-5.5,7.5) B5(-4.5,7.5) B6(-3.5,7.5) B7(-2.5,7.5) B8(-1.5,7.5) B9(-0.5,7.5) B10(0.5,7.5) B11(1.5,7.5) B12(2.5,7.5) B13(3.5,7.5) B14(4.5,7.5) B15(5.5,7.5) B16(6.5,7.5) B17(7.5,7.5) B18(8.5,7.5) C1(-8.5,6.5) C2(-7.5,6.5) C3(-6.5,6.5) C4(-5.5,6.5) C5(-4.5,6.5) C6(-3.5,6.5) C7(-2.5,6.5) C8(-1.5,6.5) C9(-0.5,6.5) C10(0.5,6.5) C11(1.5,6.5) C12(2.5,6.5) C13(3.5,6.5) C14(4.5,6.5) C15(5.5,6.5) C16(6.5,6.5) C17(7.5,6.5) C18(8.5,6.5) D1(-8.5,5.5) D2(-7.5,5.5) D3(-6.5,5.5) D4(-5.5,5.5) D5(-4.5,5.5) D6(-3.5,5.5) D7(-2.5,5.5) D8(-1.5,5.5) D9(-0.5,5.5) D10(0.5,5.5) D11(1.5,5.5) D12(2.5,5.5) D13(3.5,5.5) D14(4.5,5.5) D15(5.5,5.5) D16(6.5,5.5) D17(7.5,5.5) D18(8.5,5.5) E1(-8.5,4.5) E2(-7.5,4.5) E3(-6.5,4.5) E4(-5.5,4.5) E5(-4.5,4.5) E6(-3.5,4.5) E7(-2.5,4.5) E8(-1.5,4.5) E9(-0.5,4.5) E10(0.5,4.5) E11(1.5,4.5) E12(2.5,4.5) E13(3.5,4.5) E14(4.5,4.5) E15(5.5,4.5) E16(6.5,4.5) E17(7.5,4.5) E18(8.5,4.5) F1(-8.5,3.5) F2(-7.5,3.5) F3(-6.5,3.5) F4(-5.5,3.5) F5(-4.5,3.5) F6(-3.5,3.5) F7(-2.5,3.5) F8(-1.5,3.5) F9(-0.5,3.5) F10(0.5,3.5) F11(1.5,3.5) F12(2.5,3.5) F13(3.5,3.5) F14(4.5,3.5) F15(5.5,3.5) F16(6.5,3.5) F17(7.5,3.5) F18(8.5,3.5) G1(-8.5,2.5) G2(-7.5,2.5) G3(-6.5,2.5) G4(-5.5,2.5) G5(-4.5,2.5) G6(-3.5,2.5) G7(-2.5,2.5) G8(-1.5,2.5) G9(-0.5,2.5) G10(0.5,2.5) G11(1.5,2.5) G12(2.5,2.5) G13(3.5,2.5) G14(4.5,2.5) G15(5.5,2.5) G16(6.5,2.5) G17(7.5,2.5) G18(8.5,2.5) H1(-8.5,1.5) H2(-7.5,1.5) H3(-6.5,1.5) H4(-5.5,1.5) H5(-4.5,1.5) H6(-3.5,1.5) H7(-2.5,1.5) H8(-1.5,1.5) H9(-0.5,1.5) H10(0.5,1.5) H11(1.5,1.5) H12(2.5,1.5) H13(3.5,1.5) H14(4.5,1.5) H15(5.5,1.5) H16(6.5,1.5) H17(7.5,1.5) H18(8.5,1.5) J1(-8.5,0.5) J2(-7.5,0.5) J3(-6.5,0.5) J4(-5.5,0.5) J5(-4.5,0.5) J6(-3.5,0.5) J7(-2.5,0.5) J8(-1.5,0.5) J9(-0.5,0.5) J10(0.5,0.5) J11(1.5,0.5) J12(2.5,0.5) J13(3.5,0.5) J14(4.5,0.5) J15(5.5,0.5) J16(6.5,0.5) J17(7.5,0.5) J18(8.5,0.5) K1(-8.5,-0.5) K2(-7.5,-0.5) K3(-6.5,-0.5) K4(-5.5,-0.5) K5(-4.5,-0.5) K6(-3.5,-0.5) K7(-2.5,-0.5) K8(-1.5,-0.5) K9(-0.5,-0.5) K10(0.5,-0.5) K11(1.5,-0.5) K12(2.5,-0.5) K13(3.5,-0.5) K14(4.5,-0.5) K15(5.5,-0.5) K16(6.5,-0.5) K17(7.5,-0.5) K18(8.5,-0.5) L1(-8.5,-1.5) L2(-7.5,-1.5) L3(-6.5,-1.5) L4(-5.5,-1.5) L5(-4.5,-1.5) L6(-3.5,-1.5) L7(-2.5,-1.5) L8(-1.5,-1.5) L9(-0.5,-1.5) L10(0.5,-1.5) L11(1.5,-1.5) L12(2.5,-1.5) L13(3.5,-1.5) L14(4.5,-1.5) L15(5.5,-1.5) L16(6.5,-1.5) L17(7.5,-1.5) L18(8.5,-1.5) M1(-8.5,-2.5) M2(-7.5,-2.5) M3(-6.5,-2.5) M4(-5.5,-2.5) M5(-4.5,-2.5) M6(-3.5,-2.5) M7(-2.5,-2.5) M8(-1.5,-2.5) M9(-0.5,-2.5) M10(0.5,-2.5) M11(1.5,-2.5) M12(2.5,-2.5) M13(3.5,-2.5) M14(4.5,-2.5) M15(5.5,-2.5) M16(6.5,-2.5) M17(7.5,-2.5) M18(8.5,-2.5) N1(-8.5,-3.5) N2(-7.5,-3.5) N3(-6.5,-3.5) N4(-5.5,-3.5) N5(-4.5,-3.5) N6(-3.5,-3.5) N7(-2.5,-3.5) N8(-1.5,-3.5) N9(-0.5,-3.5) N10(0.5,-3.5) N11(1.5,-3.5) N12(2.5,-3.5) N13(3.5,-3.5) N14(4.5,-3.5) N15(5.5,-3.5) N16(6.5,-3.5) N17(7.5,-3.5) N18(8.5,-3.5) P1(-8.5,-4.5) P2(-7.5,-4.5) P3(-6.5,-4.5) P4(-5.5,-4.5) P5(-4.5,-4.5) P6(-3.5,-4.5) P7(-2.5,-4.5) P8(-1.5,-4.5) P9(-0.5,-4.5) P10(0.5,-4.5) P11(1.5,-4.5) P12(2.5,-4.5) P13(3.5,-4.5) P14(4.5,-4.5) P15(5.5,-4.5) P16(6.5,-4.5) P17(7.5,-4.5) P18(8.5,-4.5) R1(-8.5,-5.5) R2(-7.5,-5.5) R3(-6.5,-5.5) R4(-5.5,-5.5) R5(-4.5,-5.5) R6(-3.5,-5.5) R7(-2.5,-5.5) R8(-1.5,-5.5) R9(-0.5,-5.5) R10(0.5,-5.5) R11(1.5,-5.5) R12(2.5,-5.5) R13(3.5,-5.5) R14(4.5,-5.5) R15(5.5,-5.5) R16(6.5,-5.5) R17(7.5,-5.5) R18(8.5,-5.5) T1(-8.5,-6.5) T2(-7.5,-6.5) T3(-6.5,-6.5) T4(-5.5,-6.5) T5(-4.5,-6.5) T6(-3.5,-6.5) T7(-2.5,-6.5) T8(-1.5,-6.5) T9(-0.5,-6.5) T10(0.5,-6.5) T11(1.5,-6.5) T12(2.5,-6.5) T13(3.5,-6.5) T14(4.5,-6.5) T15(5.5,-6.5) T16(6.5,-6.5) T17(7.5,-6.5) T18(8.5,-6.5) U1(-8.5,-7.5) U2(-7.5,-7.5) U3(-6.5,-7.5) U4(-5.5,-7.5) U5(-4.5,-7.5) U6(-3.5,-7.5) U7(-2.5,-7.5) U8(-1.5,-7.5) U9(-0.5,-7.5) U10(0.5,-7.5) U11(1.5,-7.5) U12(2.5,-7.5) U13(3.5,-7.5) U14(4.5,-7.5) U15(5.5,-7.5) U16(6.5,-7.5) U17(7.5,-7.5) U18(8.5,-7.5) V1(-8.5,-8.5) V2(-7.5,-8.5) V3(-6.5,-8.5) V4(-5.5,-8.5) V5(-4.5,-8.5) V6(-3.5,-8.5) V7(-2.5,-8.5) V8(-1.5,-8.5) V9(-0.5,-8.5) V10(0.5,-8.5) V11(1.5,-8.5) V12(2.5,-8.5) V13(3.5,-8.5) V14(4.5,-8.5) V15(5.5,-8.5) V16(6.5,-8.5) V17(7.5,-8.5) V18(8.5,-8.5)
Top Overlay:
  circle w0.25: c-10.15,8.5 r0.125
  region: -8.5,9.5 -9.5,8.5 -9.5,9.5
  lines w0.2: -9.5,8.5 -8.5,9.5 ; -9.5,-9.5 9.5,-9.5 9.5,9.5 -9.5,9.5 -9.5,-9.5
Mechanical 13:
  lines w0.1: -9.5,-9.5 9.5,-9.5 9.5,9.5 -9.5,9.5 -9.5,-9.5
Mechanical 15:
  lines w0.1: -0.5,0 0.5,0 ; 0,-0.5 0,0.5 ; -10.5,-10.5 10.5,-10.5 10.5,10.5 -10.5,10.5 -10.5,-10.5
3D body: height 1.78, standoff 0, extent -9.5,-9.5 9.5,9.5

## FG484 [mm] "484-Ball Fine Pitch Plastic Ball Grid Array (FG484) - Fully Populated"
height 2.44
pads (484):
  round 0.5 smd: A1(-10.5,10.5) A2(-9.5,10.5) A3(-8.5,10.5) A4(-7.5,10.5) A5(-6.5,10.5) A6(-5.5,10.5) A7(-4.5,10.5) A8(-3.5,10.5) A9(-2.5,10.5) A10(-1.5,10.5) A11(-0.5,10.5) A12(0.5,10.5) A13(1.5,10.5) A14(2.5,10.5) A15(3.5,10.5) A16(4.5,10.5) A17(5.5,10.5) A18(6.5,10.5) A19(7.5,10.5) A20(8.5,10.5) A21(9.5,10.5) A22(10.5,10.5) AA1(-10.5,-9.5) AA2(-9.5,-9.5) AA3(-8.5,-9.5) AA4(-7.5,-9.5) AA5(-6.5,-9.5) AA6(-5.5,-9.5) AA7(-4.5,-9.5) AA8(-3.5,-9.5) AA9(-2.5,-9.5) AA10(-1.5,-9.5) AA11(-0.5,-9.5) AA12(0.5,-9.5) AA13(1.5,-9.5) AA14(2.5,-9.5) AA15(3.5,-9.5) AA16(4.5,-9.5) AA17(5.5,-9.5) AA18(6.5,-9.5) AA19(7.5,-9.5) AA20(8.5,-9.5) AA21(9.5,-9.5) AA22(10.5,-9.5) AB1(-10.5,-10.5) AB2(-9.5,-10.5) AB3(-8.5,-10.5) AB4(-7.5,-10.5) AB5(-6.5,-10.5) AB6(-5.5,-10.5) AB7(-4.5,-10.5) AB8(-3.5,-10.5) AB9(-2.5,-10.5) AB10(-1.5,-10.5) AB11(-0.5,-10.5) AB12(0.5,-10.5) AB13(1.5,-10.5) AB14(2.5,-10.5) AB15(3.5,-10.5) AB16(4.5,-10.5) AB17(5.5,-10.5) AB18(6.5,-10.5) AB19(7.5,-10.5) AB20(8.5,-10.5) AB21(9.5,-10.5) AB22(10.5,-10.5) B1(-10.5,9.5) B2(-9.5,9.5) B3(-8.5,9.5) B4(-7.5,9.5) B5(-6.5,9.5) B6(-5.5,9.5) B7(-4.5,9.5) B8(-3.5,9.5) B9(-2.5,9.5) B10(-1.5,9.5) B11(-0.5,9.5) B12(0.5,9.5) B13(1.5,9.5) B14(2.5,9.5) B15(3.5,9.5) B16(4.5,9.5) B17(5.5,9.5) B18(6.5,9.5) B19(7.5,9.5) B20(8.5,9.5) B21(9.5,9.5) B22(10.5,9.5) C1(-10.5,8.5) C2(-9.5,8.5) C3(-8.5,8.5) C4(-7.5,8.5) C5(-6.5,8.5) C6(-5.5,8.5) C7(-4.5,8.5) C8(-3.5,8.5) C9(-2.5,8.5) C10(-1.5,8.5) C11(-0.5,8.5) C12(0.5,8.5) C13(1.5,8.5) C14(2.5,8.5) C15(3.5,8.5) C16(4.5,8.5) C17(5.5,8.5) C18(6.5,8.5) C19(7.5,8.5) C20(8.5,8.5) C21(9.5,8.5) C22(10.5,8.5) D1(-10.5,7.5) D2(-9.5,7.5) D3(-8.5,7.5) D4(-7.5,7.5) D5(-6.5,7.5) D6(-5.5,7.5) D7(-4.5,7.5) D8(-3.5,7.5) D9(-2.5,7.5) D10(-1.5,7.5) D11(-0.5,7.5) D12(0.5,7.5) D13(1.5,7.5) D14(2.5,7.5) D15(3.5,7.5) D16(4.5,7.5) D17(5.5,7.5) D18(6.5,7.5) D19(7.5,7.5) D20(8.5,7.5) D21(9.5,7.5) D22(10.5,7.5) E1(-10.5,6.5) E2(-9.5,6.5) E3(-8.5,6.5) E4(-7.5,6.5) E5(-6.5,6.5) E6(-5.5,6.5) E7(-4.5,6.5) E8(-3.5,6.5) E9(-2.5,6.5) E10(-1.5,6.5) E11(-0.5,6.5) E12(0.5,6.5) E13(1.5,6.5) E14(2.5,6.5) E15(3.5,6.5) E16(4.5,6.5) E17(5.5,6.5) E18(6.5,6.5) E19(7.5,6.5) E20(8.5,6.5) E21(9.5,6.5) E22(10.5,6.5) F1(-10.5,5.5) F2(-9.5,5.5) F3(-8.5,5.5) F4(-7.5,5.5) F5(-6.5,5.5) F6(-5.5,5.5) F7(-4.5,5.5) F8(-3.5,5.5) F9(-2.5,5.5) F10(-1.5,5.5) F11(-0.5,5.5) F12(0.5,5.5) F13(1.5,5.5) F14(2.5,5.5) F15(3.5,5.5) F16(4.5,5.5) F17(5.5,5.5) F18(6.5,5.5) F19(7.5,5.5) F20(8.5,5.5) F21(9.5,5.5) F22(10.5,5.5) G1(-10.5,4.5) G2(-9.5,4.5) G3(-8.5,4.5) G4(-7.5,4.5) G5(-6.5,4.5) G6(-5.5,4.5) G7(-4.5,4.5) G8(-3.5,4.5) G9(-2.5,4.5) G10(-1.5,4.5) G11(-0.5,4.5) G12(0.5,4.5) G13(1.5,4.5) G14(2.5,4.5) G15(3.5,4.5) G16(4.5,4.5) G17(5.5,4.5) G18(6.5,4.5) G19(7.5,4.5) G20(8.5,4.5) G21(9.5,4.5) G22(10.5,4.5) H1(-10.5,3.5) H2(-9.5,3.5) H3(-8.5,3.5) H4(-7.5,3.5) H5(-6.5,3.5) H6(-5.5,3.5) H7(-4.5,3.5) H8(-3.5,3.5) H9(-2.5,3.5) H10(-1.5,3.5) H11(-0.5,3.5) H12(0.5,3.5) H13(1.5,3.5) H14(2.5,3.5) H15(3.5,3.5) H16(4.5,3.5) H17(5.5,3.5) H18(6.5,3.5) H19(7.5,3.5) H20(8.5,3.5) H21(9.5,3.5) H22(10.5,3.5) J1(-10.5,2.5) J2(-9.5,2.5) J3(-8.5,2.5) J4(-7.5,2.5) J5(-6.5,2.5) J6(-5.5,2.5) J7(-4.5,2.5) J8(-3.5,2.5) J9(-2.5,2.5) J10(-1.5,2.5) J11(-0.5,2.5) J12(0.5,2.5) J13(1.5,2.5) J14(2.5,2.5) J15(3.5,2.5) J16(4.5,2.5) J17(5.5,2.5) J18(6.5,2.5) J19(7.5,2.5) J20(8.5,2.5) J21(9.5,2.5) J22(10.5,2.5) K1(-10.5,1.5) K2(-9.5,1.5) K3(-8.5,1.5) K4(-7.5,1.5) K5(-6.5,1.5) K6(-5.5,1.5) K7(-4.5,1.5) K8(-3.5,1.5) K9(-2.5,1.5) K10(-1.5,1.5) K11(-0.5,1.5) K12(0.5,1.5) K13(1.5,1.5) K14(2.5,1.5) K15(3.5,1.5) K16(4.5,1.5) K17(5.5,1.5) K18(6.5,1.5) K19(7.5,1.5) K20(8.5,1.5) K21(9.5,1.5) K22(10.5,1.5) L1(-10.5,0.5) L2(-9.5,0.5) L3(-8.5,0.5) L4(-7.5,0.5) L5(-6.5,0.5) L6(-5.5,0.5) L7(-4.5,0.5) L8(-3.5,0.5) L9(-2.5,0.5) L10(-1.5,0.5) L11(-0.5,0.5) L12(0.5,0.5) L13(1.5,0.5) L14(2.5,0.5) L15(3.5,0.5) L16(4.5,0.5) L17(5.5,0.5) L18(6.5,0.5) L19(7.5,0.5) L20(8.5,0.5) L21(9.5,0.5) L22(10.5,0.5) M1(-10.5,-0.5) M2(-9.5,-0.5) M3(-8.5,-0.5) M4(-7.5,-0.5) M5(-6.5,-0.5) M6(-5.5,-0.5) M7(-4.5,-0.5) M8(-3.5,-0.5) M9(-2.5,-0.5) M10(-1.5,-0.5) M11(-0.5,-0.5) M12(0.5,-0.5) M13(1.5,-0.5) M14(2.5,-0.5) M15(3.5,-0.5) M16(4.5,-0.5) M17(5.5,-0.5) M18(6.5,-0.5) M19(7.5,-0.5) M20(8.5,-0.5) M21(9.5,-0.5) M22(10.5,-0.5) N1(-10.5,-1.5) N2(-9.5,-1.5) N3(-8.5,-1.5) N4(-7.5,-1.5) N5(-6.5,-1.5) N6(-5.5,-1.5) N7(-4.5,-1.5) N8(-3.5,-1.5) N9(-2.5,-1.5) N10(-1.5,-1.5) N11(-0.5,-1.5) N12(0.5,-1.5) N13(1.5,-1.5) N14(2.5,-1.5) N15(3.5,-1.5) N16(4.5,-1.5) N17(5.5,-1.5) N18(6.5,-1.5) N19(7.5,-1.5) N20(8.5,-1.5) N21(9.5,-1.5) N22(10.5,-1.5) P1(-10.5,-2.5) P2(-9.5,-2.5) P3(-8.5,-2.5) P4(-7.5,-2.5) P5(-6.5,-2.5) P6(-5.5,-2.5) P7(-4.5,-2.5) P8(-3.5,-2.5) P9(-2.5,-2.5) P10(-1.5,-2.5) P11(-0.5,-2.5) P12(0.5,-2.5) P13(1.5,-2.5) P14(2.5,-2.5) P15(3.5,-2.5) P16(4.5,-2.5) P17(5.5,-2.5) P18(6.5,-2.5) P19(7.5,-2.5) P20(8.5,-2.5) P21(9.5,-2.5) P22(10.5,-2.5) R1(-10.5,-3.5) R2(-9.5,-3.5) R3(-8.5,-3.5) R4(-7.5,-3.5) R5(-6.5,-3.5) R6(-5.5,-3.5) R7(-4.5,-3.5) R8(-3.5,-3.5) R9(-2.5,-3.5) R10(-1.5,-3.5) R11(-0.5,-3.5) R12(0.5,-3.5) R13(1.5,-3.5) R14(2.5,-3.5) R15(3.5,-3.5) R16(4.5,-3.5) R17(5.5,-3.5) R18(6.5,-3.5) R19(7.5,-3.5) R20(8.5,-3.5) R21(9.5,-3.5) R22(10.5,-3.5) T1(-10.5,-4.5) T2(-9.5,-4.5) T3(-8.5,-4.5) T4(-7.5,-4.5) T5(-6.5,-4.5) T6(-5.5,-4.5) T7(-4.5,-4.5) T8(-3.5,-4.5) T9(-2.5,-4.5) T10(-1.5,-4.5) T11(-0.5,-4.5) T12(0.5,-4.5) T13(1.5,-4.5) T14(2.5,-4.5) T15(3.5,-4.5) T16(4.5,-4.5) T17(5.5,-4.5) T18(6.5,-4.5) T19(7.5,-4.5) T20(8.5,-4.5) T21(9.5,-4.5) T22(10.5,-4.5) U1(-10.5,-5.5) U2(-9.5,-5.5) U3(-8.5,-5.5) U4(-7.5,-5.5) U5(-6.5,-5.5) U6(-5.5,-5.5) U7(-4.5,-5.5) U8(-3.5,-5.5) U9(-2.5,-5.5) U10(-1.5,-5.5) U11(-0.5,-5.5) U12(0.5,-5.5) U13(1.5,-5.5) U14(2.5,-5.5) U15(3.5,-5.5) U16(4.5,-5.5) U17(5.5,-5.5) U18(6.5,-5.5) U19(7.5,-5.5) U20(8.5,-5.5) U21(9.5,-5.5) U22(10.5,-5.5) V1(-10.5,-6.5) V2(-9.5,-6.5) V3(-8.5,-6.5) V4(-7.5,-6.5) V5(-6.5,-6.5) V6(-5.5,-6.5) V7(-4.5,-6.5) V8(-3.5,-6.5) V9(-2.5,-6.5) V10(-1.5,-6.5) V11(-0.5,-6.5) V12(0.5,-6.5) V13(1.5,-6.5) V14(2.5,-6.5) V15(3.5,-6.5) V16(4.5,-6.5) V17(5.5,-6.5) V18(6.5,-6.5) V19(7.5,-6.5) V20(8.5,-6.5) V21(9.5,-6.5) V22(10.5,-6.5) W1(-10.5,-7.5) W2(-9.5,-7.5) W3(-8.5,-7.5) W4(-7.5,-7.5) W5(-6.5,-7.5) W6(-5.5,-7.5) W7(-4.5,-7.5) W8(-3.5,-7.5) W9(-2.5,-7.5) W10(-1.5,-7.5) W11(-0.5,-7.5) W12(0.5,-7.5) W13(1.5,-7.5) W14(2.5,-7.5) W15(3.5,-7.5) W16(4.5,-7.5) W17(5.5,-7.5) W18(6.5,-7.5) W19(7.5,-7.5) W20(8.5,-7.5) W21(9.5,-7.5) W22(10.5,-7.5) Y1(-10.5,-8.5) Y2(-9.5,-8.5) Y3(-8.5,-8.5) Y4(-7.5,-8.5) Y5(-6.5,-8.5) Y6(-5.5,-8.5) Y7(-4.5,-8.5) Y8(-3.5,-8.5) Y9(-2.5,-8.5) Y10(-1.5,-8.5) Y11(-0.5,-8.5) Y12(0.5,-8.5) Y13(1.5,-8.5) Y14(2.5,-8.5) Y15(3.5,-8.5) Y16(4.5,-8.5) Y17(5.5,-8.5) Y18(6.5,-8.5) Y19(7.5,-8.5) Y20(8.5,-8.5) Y21(9.5,-8.5) Y22(10.5,-8.5)
Top Overlay:
  circle w0.25: c-12.15,10.5 r0.125
  region: -10.5,11.5 -11.5,10.5 -11.5,11.5
  lines w0.2: -11.5,10.5 -10.5,11.5 ; -11.5,-11.5 -11.5,11.5 11.5,11.5 11.5,-11.5 -11.5,-11.5
Mechanical 13:
  lines w0.1: -11.5,-11.5 -11.5,11.5 11.5,11.5 11.5,-11.5 -11.5,-11.5
Mechanical 15:
  lines w0.1: -0.5,0 0.5,0 ; 0,-0.5 0,0.5 ; -12.5,-12.5 -12.5,12.5 12.5,12.5 12.5,-12.5 -12.5,-12.5
3D body: height 2.44, standoff 0, extent -11.5,-11.5 11.5,11.5